# Altium footprint library CeleronLib_Connect.PcbLib: 219 footprints (part 12 of 14)
Each footprint in its own frame and in the unit in brackets; x right, y up, seen from the top. Pads: shape width x height; smd on the part's side, far side on the other; paste and mask are expansions set on the pad; w line width, h text height; cw(c..) or ccw(c..) is an arc to the next point about the centre after c.
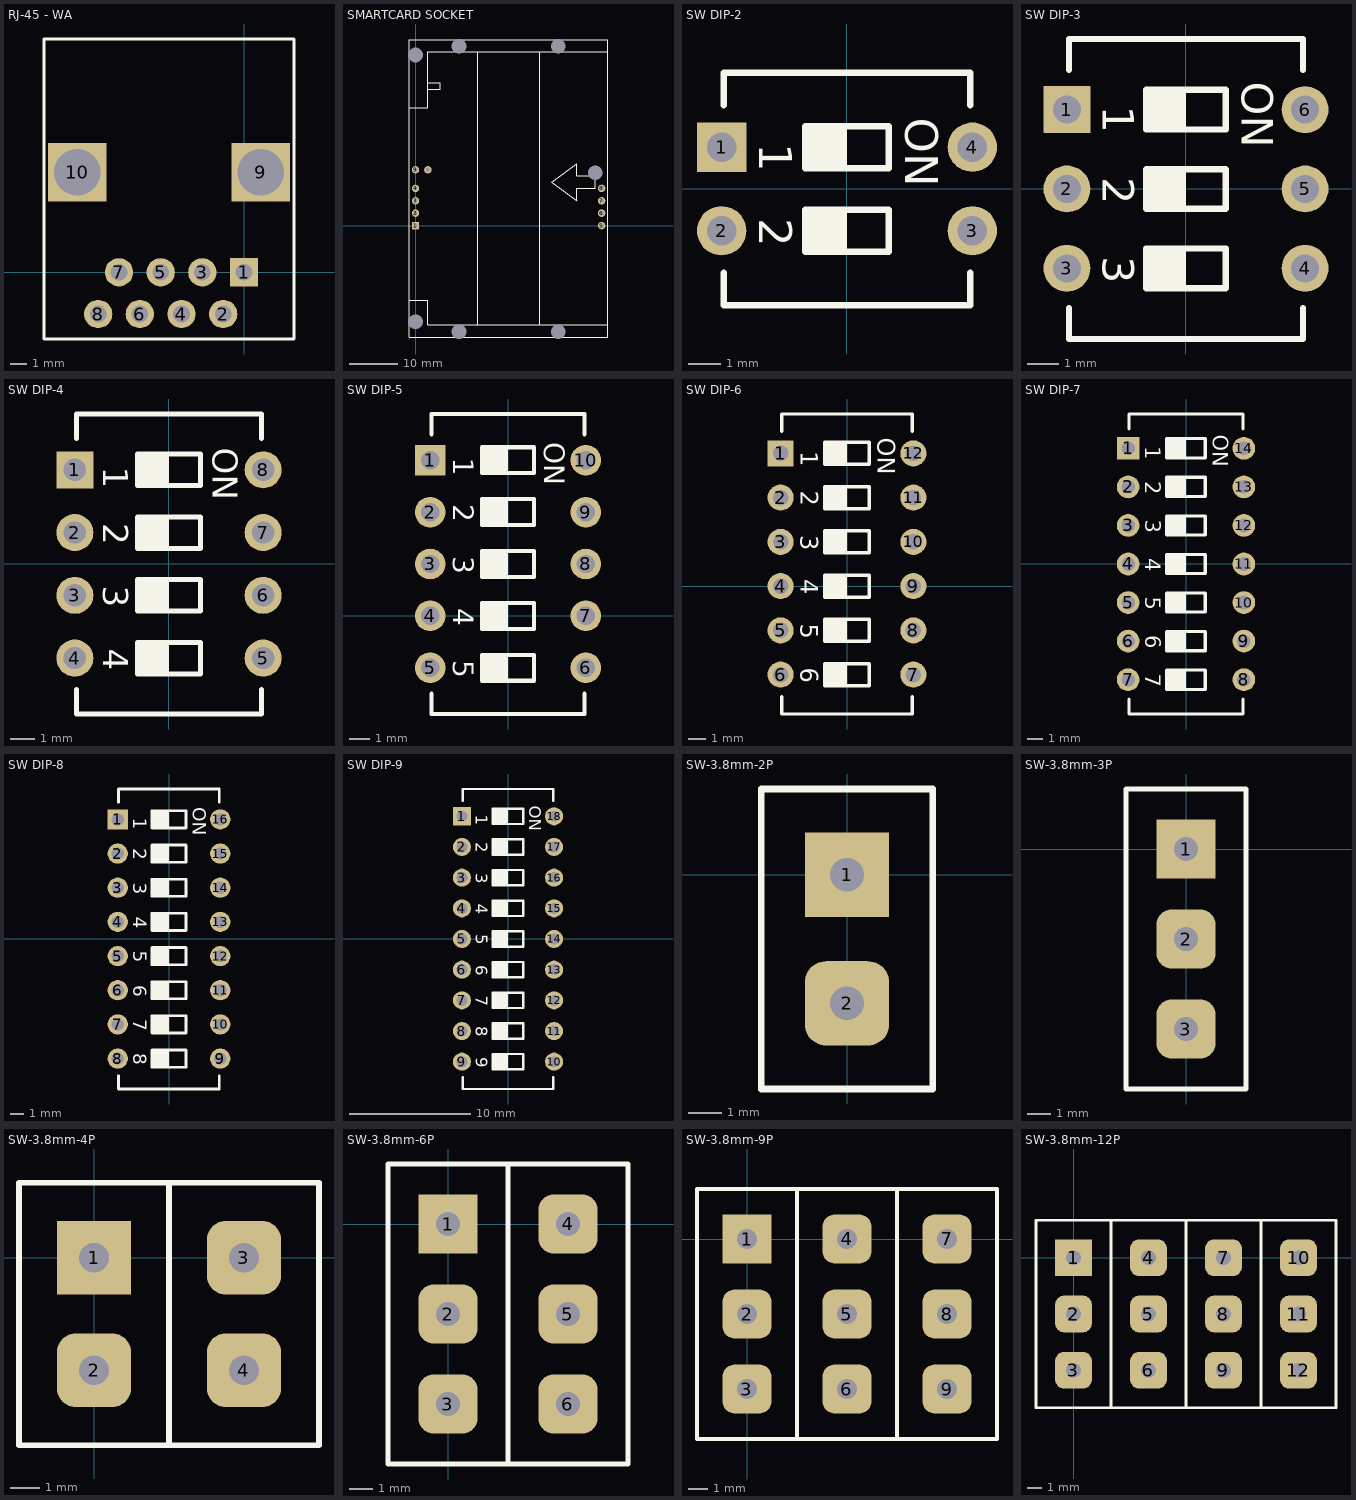
[diagram p11: the footprints below, top view; thin cyan lines are the x and y axes]

## RJ-45 - WA [mm]
pads (10):
  rect 1.7x1.7 hole 1: 1(0,0)
  round 1.7 hole 1: 2(-1.25,-2.5) 3(-2.5,0) 4(-3.75,-2.5) 5(-5,0) 6(-6.25,-2.5) 7(-7.5,0) 8(-8.75,-2.5)
  rect 3.5x3.5 hole 2.8 unplated: 9(1,6) 10(-10,6)
Top Overlay:
  lines w0.2: -12,-4 -12,14 3,14 3,-4 -12,-4

## SMARTCARD SOCKET [mil] "AMP PBT GF 30"
pads (17):
  rect 60x60 hole 35.43: 1(0,0)
  round 60 hole 35.43: 2(0,100) 3(0,200) 4(0,300) 5(1500,0) 6(1500,100) 7(1500,200) 8(1500,300) 9(0,450) 10(100,450)
  round 60 hole 118 unplated: MH(0,-775) MH(0,1375) MH(1450,425)
  round 60 hole 118.11 unplated: MH(350,-855) MH(350,1445) MH(1150,-855) MH(1150,1445)
Top Overlay:
  lines w5: -50,-600 100,-600 100,-800 1550,-800 ; -50,950 100,950 100,1400 1550,1400 ; 100,1100 200,1100 200,1150 100,1150 ; 500,-800 500,1400 ; 1000,-800 1000,1400 ; -50,-900 1550,-900 1550,1500 -50,1500 -50,-900 ; 1100,350 1300,500 1300,400 1450,400 1450,300 1300,300 1300,200 1100,350
Multi-Layer:
  text "AMP" at 780,50 h100

## SW DIP-2 [mm] "DIP 4 Leads, Row Spacing 7.62 mm; Pitch 2.54 mm"
height 10
pads (4):
  rect 1.5x1.5 hole 0.9: 1(-3.81,1.27)
  round 1.5 hole 0.9: 2(-3.81,-1.27) 3(3.81,-1.27) 4(3.81,1.27)
Top Overlay:
  region: -1.271,1.904 -1.271,0.634 -0.001,0.634 -0.001,1.904
  region: -1.271,-0.636 -1.271,-1.906 -0.001,-1.906 -0.001,-0.636
  lines w0.2: -3.747,-2.541 -3.747,-3.531 3.746,-3.531 3.746,-2.541 ; -3.747,2.539 -3.747,3.53 3.746,3.53 3.746,2.539 ; -1.271,-1.906 -1.271,-0.636 1.269,-0.636 1.269,-1.906 -1.271,-1.906 ; -1.271,0.634 1.269,0.634 1.269,1.904 -1.271,1.904 -1.271,0.634
  text "1" at -2.668,1.396 h1
  text "2" at -2.668,-0.89 h1
  text "ON" at 1.777,2.158 h1
3D body: height 7.13, standoff 0, extent -4.699,-3.175 4.699,3.175

## SW DIP-3 [mm] "DIP 6 Leads, Row Spacing 7.62 mm; Pitch 2.54 mm"
height 10
pads (6):
  rect 1.5x1.5 hole 0.9: 1(-3.81,2.54)
  round 1.5 hole 0.9: 2(-3.81,0) 3(-3.81,-2.54) 4(3.81,-2.54) 5(3.81,0) 6(3.81,2.54)
Top Overlay:
  region: -1.271,-1.906 -1.271,-3.176 -0.001,-3.176 -0.001,-1.906
  region: -1.271,0.634 -1.271,-0.636 -0.001,-0.636 -0.001,0.634
  region: -1.271,3.174 -1.271,1.904 -0.001,1.904 -0.001,3.174
  lines w0.2: -3.747,-3.811 -3.747,-4.801 3.746,-4.801 3.746,-3.811 ; -3.747,3.809 -3.747,4.8 3.746,4.8 3.746,3.809 ; -1.271,-3.176 1.269,-3.176 1.269,-1.906 -1.271,-1.906 -1.271,-3.176 ; -1.271,-0.636 1.269,-0.636 1.269,0.634 -1.271,0.634 -1.271,-0.636 ; -1.271,1.904 -1.271,3.174 1.269,3.174 1.269,1.904 -1.271,1.904
  text "ON" at 1.777,3.428 h1
  text "2" at -2.668,0.38 h1
  text "3" at -2.668,-2.16 h1
  text "1" at -2.668,2.666 h1
3D body: height 7.13, standoff 0, extent -4.699,-4.445 4.699,4.445

## SW DIP-4 [mm] "DIP 8 Leads, Row Spacing 7.62 mm; Pitch 2.54 mm"
height 10
pads (8):
  rect 1.5x1.5 hole 0.9: 1(-3.81,3.81)
  round 1.5 hole 0.9: 2(-3.81,1.27) 3(-3.81,-1.27) 4(-3.81,-3.81) 5(3.81,-3.81) 6(3.81,-1.27) 7(3.81,1.27) 8(3.81,3.81)
Top Overlay:
  region: -1.271,4.444 -1.271,3.174 -0.001,3.174 -0.001,4.444
  region: -1.271,1.904 -1.271,0.634 -0.001,0.634 -0.001,1.904
  region: -1.271,-3.176 -1.271,-4.446 -0.001,-4.446 -0.001,-3.176
  region: -1.271,-0.636 -1.271,-1.906 -0.001,-1.906 -0.001,-0.636
  lines w0.2: -3.747,-5.081 -3.747,-6.071 3.746,-6.071 3.746,-5.081 ; -3.747,5.079 -3.747,6.07 3.746,6.07 3.746,5.079 ; -1.271,-4.446 -1.271,-3.176 1.269,-3.176 1.269,-4.446 -1.271,-4.446 ; -1.271,-1.906 -1.271,-0.636 1.269,-0.636 1.269,-1.906 -1.271,-1.906 ; -1.271,0.634 -1.271,1.904 1.269,1.904 1.269,0.634 -1.271,0.634 ; -1.271,3.174 1.269,3.174 1.269,4.444 -1.271,4.444 -1.271,3.174
  text "1" at -2.668,3.936 h1
  text "3" at -2.668,-0.89 h1
  text "2" at -2.668,1.65 h1
  text "4" at -2.668,-3.43 h1
  text "ON" at 1.777,4.698 h1
3D body: height 7.13, standoff 0, extent -4.699,-5.588 4.699,5.842

## SW DIP-5 [mm] "DIP 10 Leads, Row Spacing 7.62 mm; Pitch 2.54 mm"
height 10
pads (10):
  rect 1.5x1.5 hole 0.9: 1(-3.81,7.62)
  round 1.5 hole 0.9: 2(-3.81,5.08) 3(-3.81,2.54) 4(-3.81,0) 5(-3.81,-2.54) 6(3.81,-2.54) 7(3.81,0) 8(3.81,2.54) 9(3.81,5.08) 10(3.81,7.62)
Top Overlay:
  region: -1.271,8.254 -1.271,6.984 -0.001,6.984 -0.001,8.254
  region: -1.271,5.714 -1.271,4.444 -0.001,4.444 -0.001,5.714
  region: -1.271,0.634 -1.271,-0.636 -0.001,-0.636 -0.001,0.634
  region: -1.271,-1.906 -1.271,-3.176 -0.001,-3.176 -0.001,-1.906
  region: -1.271,3.174 -1.271,1.904 -0.001,1.904 -0.001,3.174
  lines w0.2: -3.747,-3.811 -3.747,-4.801 3.746,-4.801 3.746,-3.811 ; -3.747,8.889 -3.747,9.88 3.746,9.88 3.746,8.889 ; -1.271,-3.176 -1.271,-1.906 1.269,-1.906 1.269,-3.176 -1.271,-3.176 ; -1.271,-0.636 -1.271,0.634 1.269,0.634 1.269,-0.636 -1.271,-0.636 ; -1.271,1.904 -1.271,3.174 1.269,3.174 1.269,1.904 -1.271,1.904 ; -1.271,4.444 -1.271,5.714 1.269,5.714 1.269,4.444 -1.271,4.444 ; -1.271,6.984 1.269,6.984 1.269,8.254 -1.271,8.254 -1.271,6.984
  text "1" at -2.668,7.746 h1
  text "3" at -2.668,2.92 h1
  text "2" at -2.668,5.46 h1
  text "5" at -2.668,-2.16 h1
  text "4" at -2.668,0.38 h1
  text "ON" at 1.777,8.508 h1
3D body: height 7.13, standoff 0, extent -4.699,-4.445 4.699,9.525

## SW DIP-6 [mm] "DIP 12 Leads, Row Spacing 7.62 mm; Pitch 2.54 mm"
height 10
pads (12):
  rect 1.5x1.5 hole 0.9: 1(-3.81,7.62)
  round 1.5 hole 0.9: 2(-3.81,5.08) 3(-3.81,2.54) 4(-3.81,0) 5(-3.81,-2.54) 6(-3.81,-5.08) 7(3.81,-5.08) 8(3.81,-2.54) 9(3.81,0) 10(3.81,2.54) 11(3.81,5.08) 12(3.81,7.62)
Top Overlay:
  region: -1.271,8.254 -1.271,6.984 -0.001,6.984 -0.001,8.254
  region: -1.271,5.714 -1.271,4.444 -0.001,4.444 -0.001,5.714
  region: -1.271,0.634 -1.271,-0.636 -0.001,-0.636 -0.001,0.634
  region: -1.271,-1.906 -1.271,-3.176 -0.001,-3.176 -0.001,-1.906
  region: -1.271,-4.446 -1.271,-5.716 -0.001,-5.716 -0.001,-4.446
  region: -1.271,3.174 -1.271,1.904 -0.001,1.904 -0.001,3.174
  lines w0.2: -3.747,-6.351 -3.747,-7.341 3.746,-7.341 3.746,-6.351 ; -3.747,8.889 -3.747,9.88 3.746,9.88 3.746,8.889 ; -1.271,-5.716 -1.271,-4.446 1.269,-4.446 1.269,-5.716 -1.271,-5.716 ; -1.271,-3.176 -1.271,-1.906 1.269,-1.906 1.269,-3.176 -1.271,-3.176 ; -1.271,-0.636 -1.271,0.634 1.269,0.634 1.269,-0.636 -1.271,-0.636 ; -1.271,1.904 -1.271,3.174 1.269,3.174 1.269,1.904 -1.271,1.904 ; -1.271,4.444 -1.271,5.714 1.269,5.714 1.269,4.444 -1.271,4.444 ; -1.271,6.984 1.269,6.984 1.269,8.254 -1.271,8.254 -1.271,6.984
  text "1" at -2.668,7.746 h1
  text "3" at -2.668,2.92 h1
  text "2" at -2.668,5.46 h1
  text "5" at -2.668,-2.16 h1
  text "4" at -2.668,0.38 h1
  text "6" at -2.668,-4.7 h1
  text "ON" at 1.777,8.508 h1
3D body: height 7.13, standoff 0, extent -4.699,-6.985 4.699,9.525

## SW DIP-7 [mm] "DIP 14 Leads, Row Spacing 7.62 mm; Pitch 2.54 mm"
height 10
pads (14):
  rect 1.5x1.5 hole 0.9: 1(-3.81,7.62)
  round 1.5 hole 0.9: 2(-3.81,5.08) 3(-3.81,2.54) 4(-3.81,0) 5(-3.81,-2.54) 6(-3.81,-5.08) 7(-3.81,-7.62) 8(3.81,-7.62) 9(3.81,-5.08) 10(3.81,-2.54) 11(3.81,0) 12(3.81,2.54) 13(3.81,5.08) 14(3.81,7.62)
Top Overlay:
  region: -1.271,8.254 -1.271,6.984 -0.001,6.984 -0.001,8.254
  region: -1.271,5.714 -1.271,4.444 -0.001,4.444 -0.001,5.714
  region: -1.271,0.634 -1.271,-0.636 -0.001,-0.636 -0.001,0.634
  region: -1.271,-1.906 -1.271,-3.176 -0.001,-3.176 -0.001,-1.906
  region: -1.271,-4.446 -1.271,-5.716 -0.001,-5.716 -0.001,-4.446
  region: -1.271,-6.986 -1.271,-8.256 -0.001,-8.256 -0.001,-6.986
  region: -1.271,3.174 -1.271,1.904 -0.001,1.904 -0.001,3.174
  lines w0.2: -3.747,-8.891 -3.747,-9.881 3.746,-9.881 3.746,-8.891 ; -3.747,8.889 -3.747,9.88 3.746,9.88 3.746,8.889 ; -1.271,-8.256 -1.271,-6.986 1.269,-6.986 1.269,-8.256 -1.271,-8.256 ; -1.271,-5.716 -1.271,-4.446 1.269,-4.446 1.269,-5.716 -1.271,-5.716 ; -1.271,-3.176 -1.271,-1.906 1.269,-1.906 1.269,-3.176 -1.271,-3.176 ; -1.271,-0.636 -1.271,0.634 1.269,0.634 1.269,-0.636 -1.271,-0.636 ; -1.271,1.904 -1.271,3.174 1.269,3.174 1.269,1.904 -1.271,1.904 ; -1.271,4.444 -1.271,5.714 1.269,5.714 1.269,4.444 -1.271,4.444 ; -1.271,6.984 1.269,6.984 1.269,8.254 -1.271,8.254 -1.271,6.984
  text "1" at -2.668,7.746 h1
  text "3" at -2.668,2.92 h1
  text "2" at -2.668,5.46 h1
  text "5" at -2.668,-2.16 h1
  text "4" at -2.668,0.38 h1
  text "6" at -2.668,-4.7 h1
  text "7" at -2.668,-7.24 h1
  text "ON" at 1.777,8.508 h1
3D body: height 7.13, standoff 0, extent -4.699,-9.525 4.699,9.525

## SW DIP-8 [mm] "DIP 16 Leads, Row Spacing 7.62 mm; Pitch 2.54 mm"
height 10
pads (16):
  rect 1.5x1.5 hole 0.9: 1(-3.81,8.89)
  round 1.5 hole 0.9: 2(-3.81,6.35) 3(-3.81,3.81) 4(-3.81,1.27) 5(-3.81,-1.27) 6(-3.81,-3.81) 7(-3.81,-6.35) 8(-3.81,-8.89) 9(3.81,-8.89) 10(3.81,-6.35) 11(3.81,-3.81) 12(3.81,-1.27) 13(3.81,1.27) 14(3.81,3.81) 15(3.81,6.35) 16(3.81,8.89)
Top Overlay:
  region: -1.271,9.524 -1.271,8.254 -0.001,8.254 -0.001,9.524
  region: -1.271,6.984 -1.271,5.714 -0.001,5.714 -0.001,6.984
  region: -1.271,1.904 -1.271,0.634 -0.001,0.634 -0.001,1.904
  region: -1.271,-0.636 -1.271,-1.906 -0.001,-1.906 -0.001,-0.636
  region: -1.271,-3.176 -1.271,-4.446 -0.001,-4.446 -0.001,-3.176
  region: -1.271,-5.716 -1.271,-6.986 -0.001,-6.986 -0.001,-5.716
  region: -1.271,-8.256 -1.271,-9.526 -0.001,-9.526 -0.001,-8.256
  region: -1.271,4.444 -1.271,3.174 -0.001,3.174 -0.001,4.444
  lines w0.2: -3.747,-10.161 -3.747,-11.151 3.746,-11.151 3.746,-10.161 ; -3.747,10.159 -3.747,11.15 3.746,11.15 3.746,10.159 ; -1.271,-9.526 -1.271,-8.256 1.269,-8.256 1.269,-9.526 -1.271,-9.526 ; -1.271,-6.986 -1.271,-5.716 1.269,-5.716 1.269,-6.986 -1.271,-6.986 ; -1.271,-4.446 -1.271,-3.176 1.269,-3.176 1.269,-4.446 -1.271,-4.446 ; -1.271,-1.906 -1.271,-0.636 1.269,-0.636 1.269,-1.906 -1.271,-1.906 ; -1.271,0.634 -1.271,1.904 1.269,1.904 1.269,0.634 -1.271,0.634 ; -1.271,3.174 -1.271,4.444 1.269,4.444 1.269,3.174 -1.271,3.174 ; -1.271,5.714 -1.271,6.984 1.269,6.984 1.269,5.714 -1.271,5.714 ; -1.271,8.254 1.269,8.254 1.269,9.524 -1.271,9.524 -1.271,8.254
  text "1" at -2.668,9.016 h1
  text "3" at -2.668,4.19 h1
  text "2" at -2.668,6.73 h1
  text "5" at -2.668,-0.89 h1
  text "4" at -2.668,1.65 h1
  text "6" at -2.668,-3.43 h1
  text "7" at -2.668,-5.97 h1
  text "8" at -2.668,-8.51 h1
  text "ON" at 1.777,9.778 h1
3D body: height 7.13, standoff 0, extent -4.699,-10.795 4.699,10.795

## SW DIP-9 [mm] "DIP 18 Leads, Row Spacing 7.62 mm; Pitch 2.54 mm"
height 10
pads (18):
  rect 1.5x1.5 hole 0.9: 1(-3.81,10.16)
  round 1.5 hole 0.9: 2(-3.81,7.62) 3(-3.81,5.08) 4(-3.81,2.54) 5(-3.81,0) 6(-3.81,-2.54) 7(-3.81,-5.08) 8(-3.81,-7.62) 9(-3.81,-10.16) 10(3.81,-10.16) 11(3.81,-7.62) 12(3.81,-5.08) 13(3.81,-2.54) 14(3.81,0) 15(3.81,2.54) 16(3.81,5.08) 17(3.81,7.62) 18(3.81,10.16)
Top Overlay:
  region: -1.271,-9.526 -1.271,-10.796 -0.001,-10.796 -0.001,-9.526
  region: -1.271,10.794 -1.271,9.524 -0.001,9.524 -0.001,10.794
  region: -1.271,8.254 -1.271,6.984 -0.001,6.984 -0.001,8.254
  region: -1.271,3.174 -1.271,1.904 -0.001,1.904 -0.001,3.174
  region: -1.271,0.634 -1.271,-0.636 -0.001,-0.636 -0.001,0.634
  region: -1.271,-1.906 -1.271,-3.176 -0.001,-3.176 -0.001,-1.906
  region: -1.271,-4.446 -1.271,-5.716 -0.001,-5.716 -0.001,-4.446
  region: -1.271,-6.986 -1.271,-8.256 -0.001,-8.256 -0.001,-6.986
  region: -1.271,5.714 -1.271,4.444 -0.001,4.444 -0.001,5.714
  lines w0.2: -3.747,-11.431 -3.747,-12.421 3.746,-12.421 3.746,-11.431 ; -3.747,11.429 -3.747,12.42 3.746,12.42 3.746,11.429 ; -1.271,-10.796 1.269,-10.796 1.269,-9.526 -1.271,-9.526 -1.271,-10.796 ; -1.271,-8.256 -1.271,-6.986 1.269,-6.986 1.269,-8.256 -1.271,-8.256 ; -1.271,-5.716 -1.271,-4.446 1.269,-4.446 1.269,-5.716 -1.271,-5.716 ; -1.271,-3.176 -1.271,-1.906 1.269,-1.906 1.269,-3.176 -1.271,-3.176 ; -1.271,-0.636 -1.271,0.634 1.269,0.634 1.269,-0.636 -1.271,-0.636 ; -1.271,1.904 -1.271,3.174 1.269,3.174 1.269,1.904 -1.271,1.904 ; -1.271,4.444 -1.271,5.714 1.269,5.714 1.269,4.444 -1.271,4.444 ; -1.271,6.984 -1.271,8.254 1.269,8.254 1.269,6.984 -1.271,6.984 ; -1.271,9.524 1.269,9.524 1.269,10.794 -1.271,10.794 -1.271,9.524
  text "9" at -2.668,-9.78 h1
  text "1" at -2.668,10.286 h1
  text "3" at -2.668,5.46 h1
  text "2" at -2.668,8 h1
  text "5" at -2.668,0.38 h1
  text "4" at -2.668,2.92 h1
  text "6" at -2.668,-2.16 h1
  text "7" at -2.668,-4.7 h1
  text "8" at -2.668,-7.24 h1
  text "ON" at 1.777,11.048 h1

## SW-3.8mm-2P [mm] "Контактные площадки под монтажные провода (1mm hole)"
pads (2):
  rect 2.5x2.5 hole 1 mask-0.7: 1(0,0)
  rrect50% 2.5x2.5 hole 1 mask-0.7: 2(0,-3.81)
Top Overlay:
  lines w0.2: -2.54,-6.35 2.54,-6.35 2.54,2.54 -2.54,2.54 -2.54,-6.35

## SW-3.8mm-3P [mm] "Контактные площадки под монтажные провода (1mm hole)"
pads (3):
  rect 2.5x2.5 hole 1 mask-0.7: 1(0,0)
  rrect50% 2.5x2.5 hole 1 mask-0.7: 2(0,-3.81) 3(0,-7.62)
Top Overlay:
  lines w0.2: -2.54,-10.16 2.54,-10.16 2.54,2.54 -2.54,2.54 -2.54,-10.16

## SW-3.8mm-4P [mm] "Контактные площадки под монтажные провода (1mm hole)"
pads (4):
  rect 2.5x2.5 hole 1 mask-0.7: 1(0,0)
  rrect50% 2.5x2.5 hole 1 mask-0.7: 2(0,-3.81) 3(5.08,0) 4(5.08,-3.81)
Top Overlay:
  lines w0.2: 2.54,-6.35 2.54,2.54 ; -2.54,-6.35 7.62,-6.35 7.62,2.54 -2.54,2.54 -2.54,-6.35

## SW-3.8mm-6P [mm] "Контактные площадки под монтажные провода (1mm hole)"
pads (6):
  rect 2.5x2.5 hole 1 mask-0.7: 1(0,0)
  rrect50% 2.5x2.5 hole 1 mask-0.7: 2(0,-3.81) 3(0,-7.62) 4(5.08,0) 5(5.08,-3.81) 6(5.08,-7.62)
Top Overlay:
  lines w0.2: 2.54,-10.16 2.54,2.54 ; -2.54,-10.16 -2.54,2.54 7.62,2.54 7.62,-10.16 -2.54,-10.16

## SW-3.8mm-9P [mm] "Контактные площадки под монтажные провода (1mm hole)"
pads (9):
  rect 2.5x2.5 hole 1 mask-0.7: 1(0,0)
  rrect50% 2.5x2.5 hole 1 mask-0.7: 2(0,-3.81) 3(0,-7.62) 4(5.08,0) 5(5.08,-3.81) 6(5.08,-7.62) 7(10.16,0) 8(10.16,-3.81) 9(10.16,-7.62)
Top Overlay:
  lines w0.2: 2.54,-10.16 2.54,2.54 ; 7.62,-10.16 7.62,2.54 ; -2.54,-10.16 12.7,-10.16 12.7,2.54 -2.54,2.54 -2.54,-10.16

## SW-3.8mm-12P [mm] "Контактные площадки под монтажные провода (1mm hole)"
pads (12):
  rect 2.5x2.5 hole 1 mask-0.7: 1(0,0)
  rrect50% 2.5x2.5 hole 1 mask-0.7: 2(0,-3.81) 3(0,-7.62) 4(5.08,0) 5(5.08,-3.81) 6(5.08,-7.62) 7(10.16,0) 8(10.16,-3.81) 9(10.16,-7.62) 10(15.24,0) 11(15.24,-3.81) 12(15.24,-7.62)
Top Overlay:
  lines w0.2: 2.54,-10.16 2.54,2.54 ; 7.62,-10.16 7.62,2.54 ; 12.7,-10.16 12.7,2.54 ; -2.54,-10.16 -2.54,2.54 17.78,2.54 17.78,-10.16 -2.54,-10.16